# Altium schematic symbol library SL0406-821K-N.Schlib: 1 symbol
Pins are listed as number, name and electrical type; pins without a type are passive.

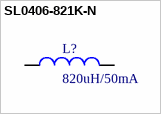
[diagram p0: symbol SL0406-821K-N]

## SL0406-821K-N
designator L?, comment 820uH/50mA
EMI Inductor
pins: 1, 2